# Altium footprint library JST.PcbLib: 2 footprints
Each footprint in its own frame and in the unit in brackets; x right, y up, seen from the top. Pads: shape width x height; smd on the part's side, far side on the other; paste and mask are expansions set on the pad; w line width, h text height; cw(c..) or ccw(c..) is an arc to the next point about the centre after c.
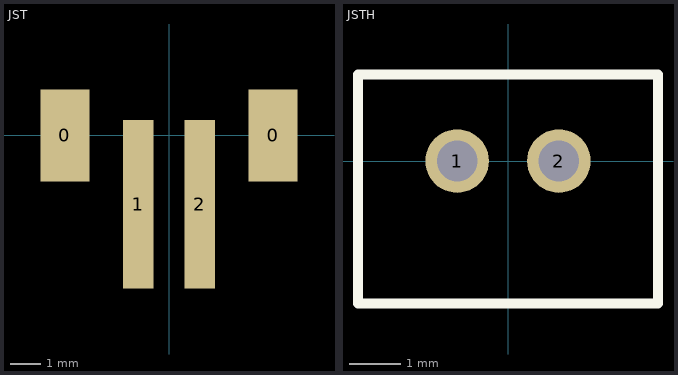
[diagram p0: the footprints below, top view; thin cyan lines are the x and y axes]

## JST [mm]
pads (4):
  rect 1.6x3 smd: 0(-3.4,0) 0(3.4,0)
  rect 1x5.5 smd: 1(-1,-2.25) 2(1,-2.25)
3D body "User Library-JST_B2B-PH-SM4-TB-white.step": height 6.6, standoff 0, extent -3.975,-4.5 3.975,2.5

## JSTH [mm] "JST 2 Pin Through hole"
height 7
pads (2):
  round 1.25 hole 0.8: 1(-1,0) 2(1,0)
Top Overlay:
  lines w0.2: -2.95,-2.8 2.95,-2.8 2.95,1.7 -2.95,1.7 -2.95,-2.8
3D body "User Library-JST B2B-PH-K-S.step": height 6, standoff -3.4, extent -2.95,-2.8 2.95,1.7